# Altium footprint library DOCK_ESP32_v1.0.PcbLib: 35 footprints (part 3 of 3)
Each footprint in its own frame and in the unit in brackets; x right, y up, seen from the top. Pads: shape width x height; smd on the part's side, far side on the other; paste and mask are expansions set on the pad; w line width, h text height; cw(c..) or ccw(c..) is an arc to the next point about the centre after c.
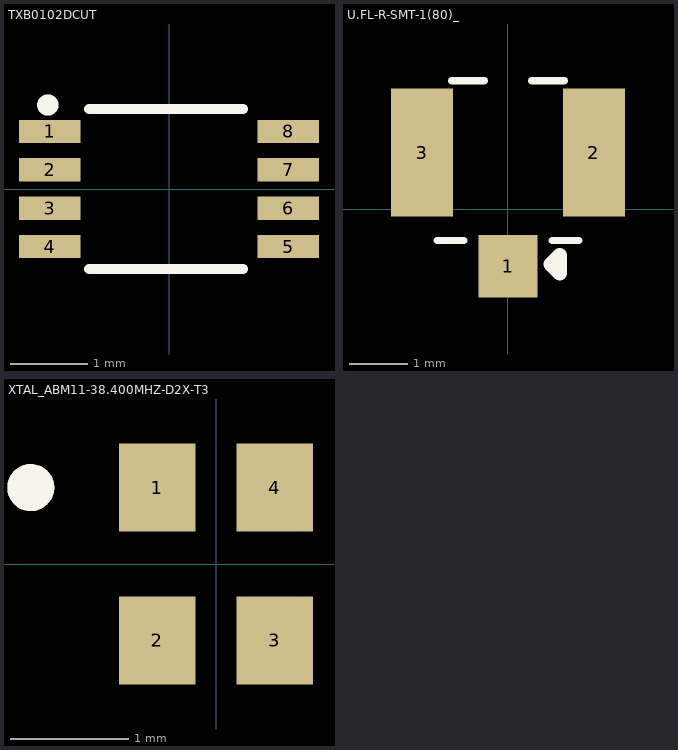
[diagram p2: the footprints below, top view; thin cyan lines are the x and y axes]

## TXB0102DCUT [mm]
height 8.77
pads (8):
  rect 0.8x0.3 smd: 1(-1.55,0.75) 2(-1.55,0.25) 3(-1.55,-0.25) 4(-1.55,-0.75) 5(1.55,-0.75) 6(1.55,-0.25) 7(1.55,0.25) 8(1.55,0.75)
Top Overlay:
  circle w0.2: c-1.575,1.092 r0.038
  lines w0.127: -1.041,-1.041 0.965,-1.041 ; -1.041,1.041 0.965,1.041
3D body "TXB0102DCUT.STEP": height 0.9, standoff 0, extent -1.55,-1 1.55,1

## U.FL-R-SMT-1(80)_ [mm]
height 8.77
pads (3):
  rect 1.02x1.07 smd: 1(0,-0.974)
  rect 1.07x2.2 smd: 2(1.475,0.974) 3(-1.475,0.974)
Top Overlay:
  lines w0.127: -1.219,-0.533 -0.762,-0.533 ; -0.965,2.21 -0.406,2.21 ; 0.406,2.21 0.965,2.21 ; 0.762,-0.533 1.219,-0.533
  lines w0.254: 0.737,-0.94 0.889,-1.092 0.889,-0.787 0.737,-0.94
3D body "U.FL-R-SMT-1.stp": height 1.2, standoff -0.05, extent -1.475,-0.737 1.525,2.363

## XTAL_ABM11-38.400MHZ-D2X-T3 [mm]
height 0.59
pads (4):
  rect 0.65x0.75 smd: 1(-0.5,0.65) 2(-0.5,-0.65) 3(0.5,-0.65) 4(0.5,0.65)
Top Overlay:
  circle w0.2: c-1.575,0.65 r0.1
Mechanical 13:
  circle w0.2: c-1.575,0.65 r0.1
3D body "step_temp.STEP": height 0.59, standoff 0, extent -1.003,-0.8 1.003,0.8